# EAGLE library part 47155-4001 (library Jack-connectors)
Molex Serial ATA Signal Plugs, vertical
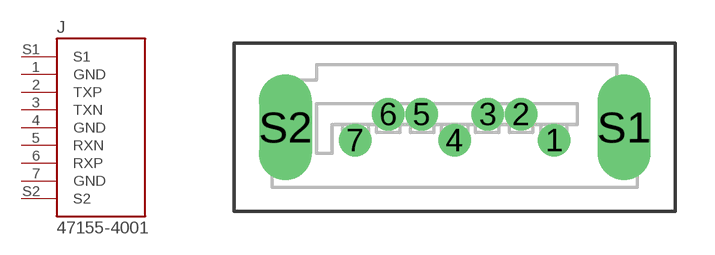
[diagram p20: symbol with the pads of SD-47155-004; footprint SD-47155-004]

Designator prefix J

## 47155-4001 (DESCRIPTION: Molex Serial ATA Signal Plugs, vertical; PACK: 47155-4001)  [SD-47155-004]
1  GND  pwr
2  TXP
3  TXN
4  GND  pwr
5  RXN
6  RXP
7  GND  pwr
S1  S1  pas
S2  S2  pas

## Footprint SD-47155-004 (pad centres in mm)
drill 0.74: 1 3.81,-0.5; 4 0,-0.5; 7 -3.81,-0.5
drill 0.74 pad 1.1: 2 2.54,0.5; 3 1.27,0.5; 5 -1.27,0.5; 6 -2.54,0.5
drill 1.35 long: S1 6.48,0; S2 -6.48,0